# Altium schematic symbol library DIODE,Schottky,40V,1A,SOT23.Schlib: 1 symbol
Pins are listed as number, name and electrical type; pins without a type are passive.

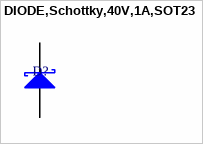
[diagram p0: symbol DIODE,Schottky,40V,1A,SOT23]

## DIODE,Schottky,40V,1A,SOT23
designator D?
pins: 1 A, 3 K